# EAGLE library part TPS3619 (library texas-custom)
IC BATTERY-BACKUP 3.3V 8VSSOP
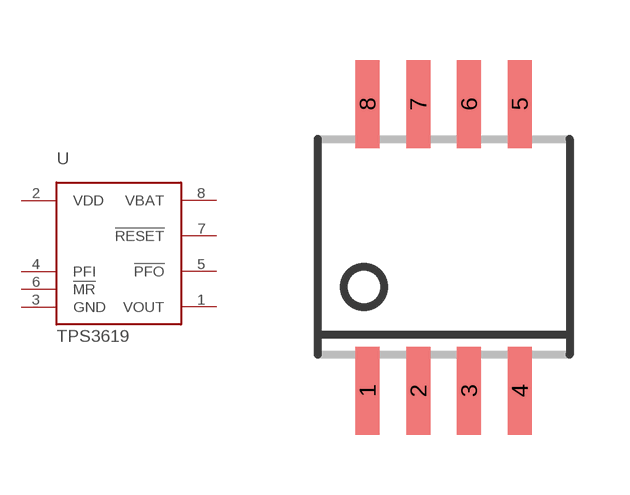
[diagram p1: symbol with the pads of SOP-08; footprint SOP-08]

Designator prefix -

## TPS3619  [SOP-08]
1  VOUT
2  VDD
3  GND
4  PFI
5  !PFO
6  !MR
7  !RESET
8  VBAT

## Footprint SOP-08 (pad centres in mm)
PS (R-PDSO-G8) Source: http://focus.ti.com .. sn65176b.pdf
smd 0.6 x 2.2: 1 -1.905,-3.6; 2 -0.635,-3.6; 3 0.635,-3.6; 4 1.905,-3.6; 5 1.905,3.575; 6 0.635,3.575; 7 -0.635,3.575; 8 -1.905,3.575